# EAGLE library part CARDHOLDER_MICRO (library FaBo-SD)
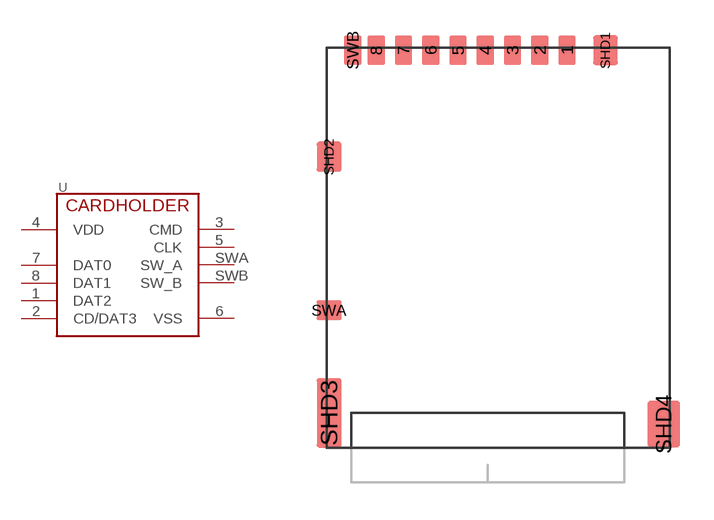
[diagram p1: symbol with the pads of DM3AT-SF-PEJM5; footprint DM3AT-SF-PEJM5]

Designator prefix U

## CARDHOLDER_MICRO  [DM3AT-SF-PEJM5]
1  DAT2
2  CD/DAT3
3  CMD
4  VDD
5  CLK
6  VSS
7  DAT0
8  DAT1
SWA  SW_A
SWB  SW_B

## Footprint DM3AT-SF-PEJM5 (pad centres in mm)
smd 0.7 x 1.2: 1 2.775,16.05; 2 1.675,16.05; 3 0.575,16.05; 4 -0.525,16.05; 5 -1.625,16.05; 6 -2.725,16.05; 7 -3.825,16.05; 8 -4.925,16.05; SWB -5.875,16.05
smd 1 x 1.2: SHD1 4.325,16.05; SHD2 -6.825,11.75
smd 1 x 2.8: SHD3 -6.825,1.4
smd 1.3 x 1.9: SHD4 6.675,0.95
smd 1 x 0.8: SWA -6.825,5.55